# Altium schematic symbol library EXTRA.SchLib: 18 symbols
Pins are listed as number, name and electrical type; pins without a type are passive.

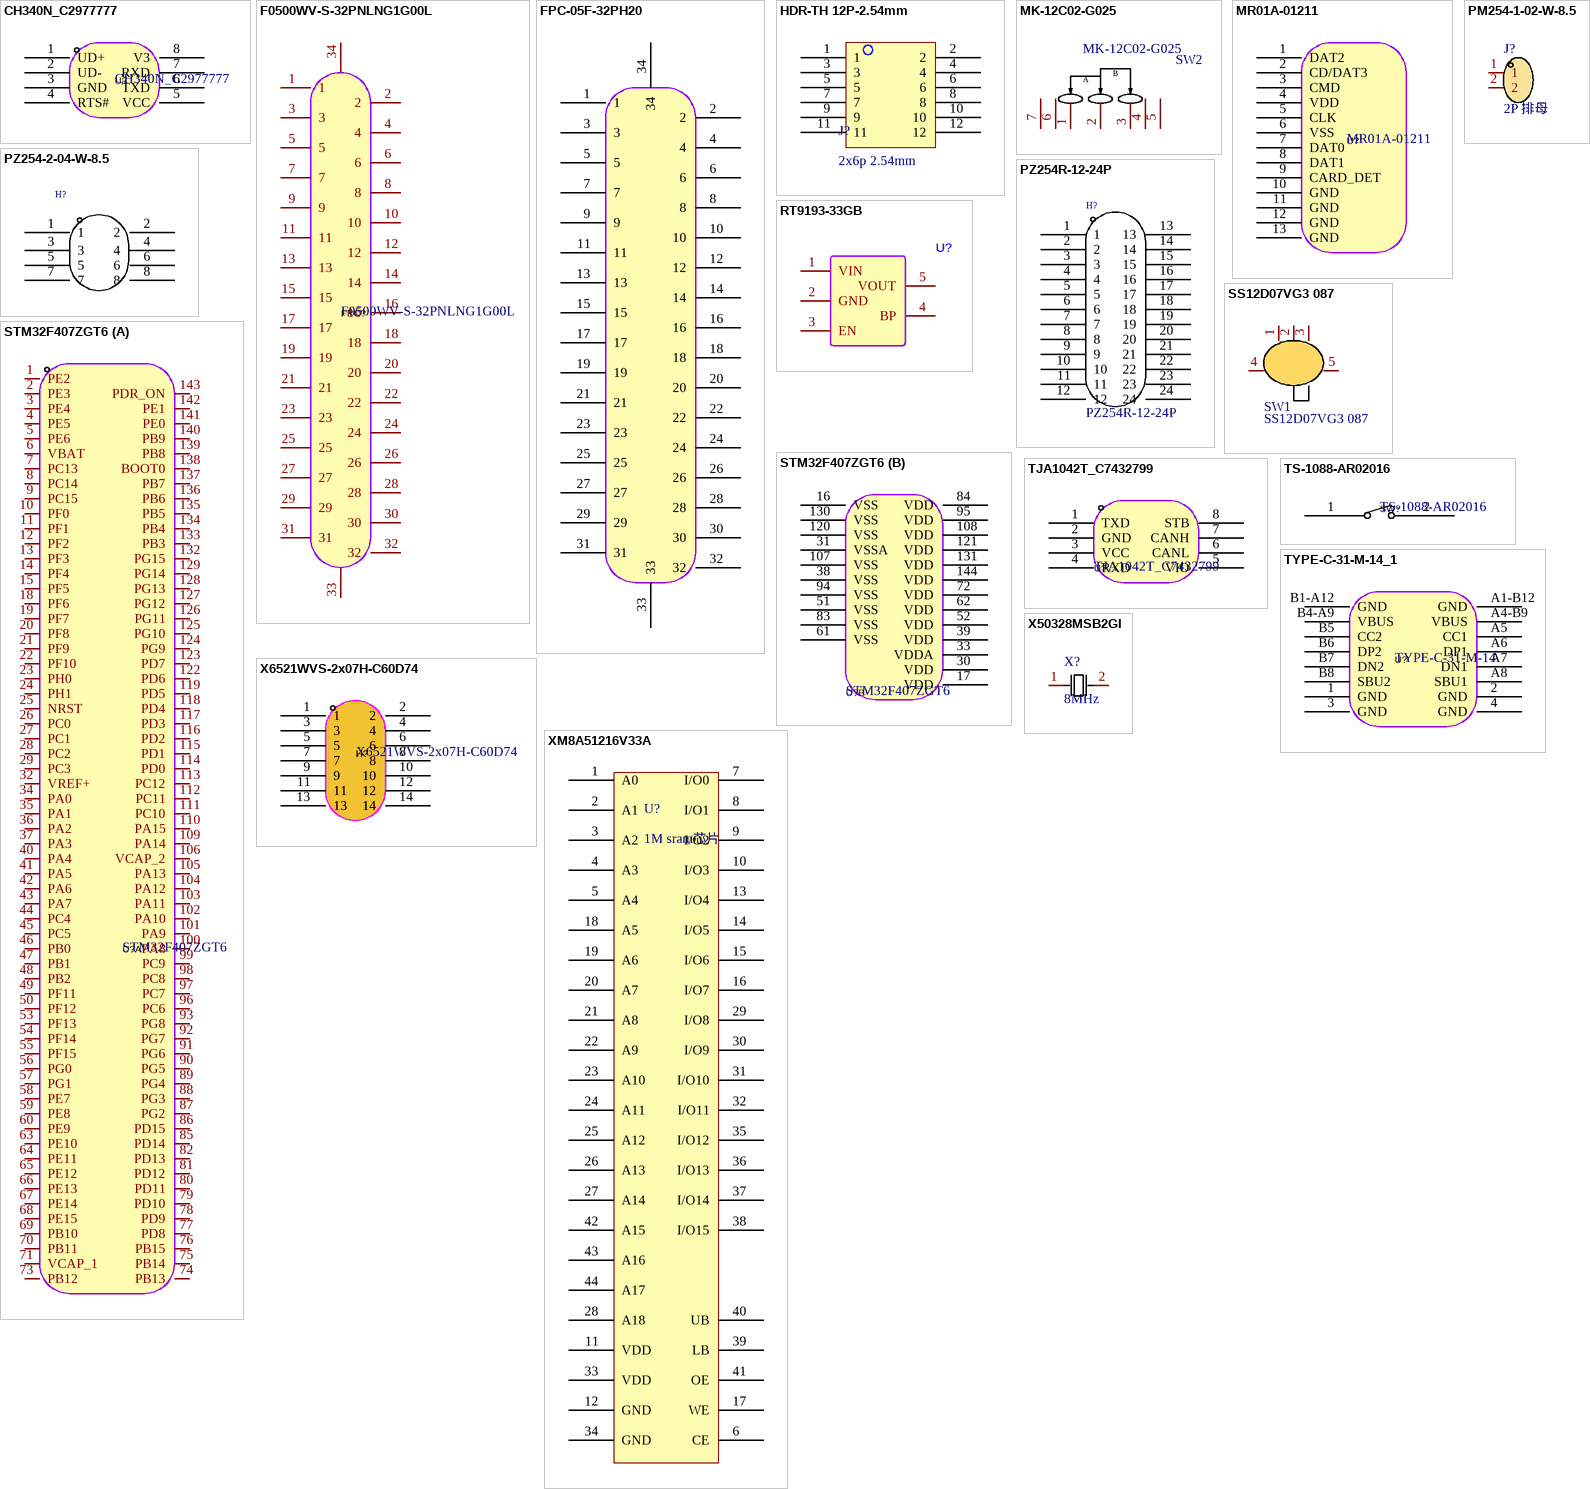
[diagram p0: symbols CH340N_C2977777 to XM8A51216V33A]

## CH340N_C2977777
designator U?
TTL串口phy; Designer: U?; Symbol: CH340N_C2977777; Device: CH340N_C2977777
footprint CH340_N (USB转串口小封装芯片)
pins: 1 UD+, 2 UD-, 3 GND, 4 RTS#, 5 VCC, 6 TXD, 7 RXD, 8 V3

## F0500WV-S-32PNLNG1G00L
designator FPC?
FPC_32PIN; Manufacturer: HR(灿达); Add into BOM: yes; Pitch: 0.5mm; Number of Contacts: 32; Locking Feature: 抽屉式; FFC, FCB Thickness: 0.3mm; Name: F0500WV-S-32PNLNG1G00L; Symbol: F0500WV-S-32PNLNG1G00L; Device: F0500WV-S-32PNLNG1G00L; LCSC Part Name: 0.5mm P数:32 抽屉式 下接 镀金无卤素; Supplier Part: C247829; Manufacturer Part: F0500WV-S-32PNLNG1G00L; Supplier Footprint: SMD,P=0.5mm; JLCPCB Part Class: Extended Part; Datasheet: https://atta.szlcsc.com/upload/public/pdf/source/20190122/C247829_AD3F4E79C9174FB4B4603555866720A3.pdf; Supplier: LCSC; Convert to PCB: yes; Mounting Type: 卧贴; Contact Type: 下接; Height Above Board: 4.35mm
3D model FPC-SMD_P0.50-32P_F0500WV-S
footprint FPC-SMD_P0.50-32P_F0500WV-S (FPC_32PIN)
pins: 1, 2, 3, 4, 5, 6, 7, 8, 9, 10, 11, 12, 13, 14, 15, 16, 17, 18, 19, 20, 21, 22, 23, 24, 25, 26, 27, 28, 29, 30, 31, 32, 33, 34

## FPC-05F-32PH20
designator FPC?  (value not drawn)
FPC屏幕排线接口; Manufacturer: XUNPU(讯普); Add into BOM: yes; Name: FPC-05F-32PH20; Symbol: FPC-05F-32PH20; Device: FPC-05F-32PH20; LCSC Part Name: 32P 0.5mm; Supplier Part: C2856809; Manufacturer Part: FPC-05F-32PH20; Supplier Footprint: SMD; JLCPCB Part Class: Extended Part; Supplier: LCSC; Convert to PCB: yes
footprint FPC-SMD_32P-P0.50_XUNPU_FPC-05F-32PH20
3D model FPC-SMD_32P-P0.50_XUNPU_FPC-05F-32PH20
pins: 1, 2, 3, 4, 5, 6, 7, 8, 9, 10, 11, 12, 13, 14, 15, 16, 17, 18, 19, 20, 21, 22, 23, 24, 25, 26, 27, 28, 29, 30, 31, 32, 33, 34

## HDR-TH 12P-2.54mm
designator J?, comment 2x6p 2.54mm
弯针2x6p排针
footprint HDR-TH 12P-2.54mm (上下6p弯曲排针)
pins: 1, 2, 3, 4, 5, 6, 7, 8, 9, 10, 11, 12

## MK-12C02-G025
designator SW2
贴片拨动开关; Manufacturer: G-Switch(品赞); Add into BOM: yes; Circuit: 单刀双掷; Actuator Style: 矩形柱状; Pin Style: SMD接片; Switch Length: 6.6mm; Switch Width: 2.7mm; Switch Height: 5.2mm; Actuator Color: 黑色; Current Rating (DC): 1A; Voltage Rating (DC): 6V; Mechanical Life: 1万次; Symbol: MK-12C02-G025; Device: MK-12C02-G025; Supplier: LCSC; Supplier Part: C778186; Manufacturer Part: MK-12C02-G025; JLCPCB Part Class: 扩展库; LCSC Part Name: 七脚小拨动开关2.5柄; Supplier Footprint: SMD; Datasheet: https://atta.szlcsc.com/upload/public/pdf/source/20200902/C778186_2AF08473ED98414D93A175E8814EEFA6.pdf; Convert to PCB: yes; Mounting Style: 卧贴; Operating Temperature: -20℃~+70℃; Name: MK-12C02-G025
footprint MK-12C02-G025 (贴片拨动开关)
pins: 1, 2, 3, 4, 5, 6, 7
text: B; A

## MR01A-01211
designator U?
SD卡座; Manufacturer: ATOM(爱特姆); Add into BOM: yes; Card Type: MicroSD卡(TF卡); Connector Type: 卡座; Card Connection Mode: 自弹式; Maximum Body Height: 1.85mm; Name: MR01A-01211; Symbol: MR01A-01211; Device: MR01A-01211; LCSC Part Name: MR01A-01211; Supplier Part: C479742; Manufacturer Part: MR01A-01211; Supplier Footprint: SMD; JLCPCB Part Class: Extended Part; Datasheet: https://atta.szlcsc.com/upload/public/pdf/source/20200107/C479742_0284EDD146B0D8F7A9D47B481AEA01A2.pdf; Supplier: LCSC; Convert to PCB: yes; Operating Temperature Range: -25℃~+85℃
3D model TF-SMD_MR01A-01211
footprint TF-SMD_MR01A-01211 (SD卡卡座)
pins: 1 DAT2, 2 CD/DAT3, 3 CMD, 4 VDD, 5 CLK, 6 VSS, 7 DAT0, 8 DAT1, 9 CARD_DET, 10 GND, 11 GND, 12 GND, 13 GND

## PM254-1-02-W-8.5
designator J?, comment 2P 排母
2p弯针; Manufacturer: HCTL(华灿天禄); Symbol: PM254-1-02-W-8.5; Add into BOM: yes; Holes Structure: 1x2P; Pitch: 2.54mm; Circular Hole / Square Hole: 方孔; Current Rating (Max): 3A; Holes Direction: 侧面; Device: PM254-1-02-W-8.5; Supplier: LCSC; Supplier Part: C2897384; Manufacturer Part: PM254-1-02-W-8.5; JLCPCB Part Class: 扩展库; LCSC Part Name: 间距:2.54mm 1x2P 弯插; Supplier Footprint: 弯插,P=2.54mm; Datasheet: https://atta.szlcsc.com/upload/public/pdf/source/20230609/7BA40A3D721268A082DCDEAD4C99131B.pdf; Convert to PCB: yes; Number of Holes: 2P; Mounting Type: 弯插; Number of Rows: 单排; Row Spacing: -; Voltage Rating (Max): -; Insulation Height: 8.5mm; Operating Temperature Range: -40℃~+105℃
footprint PM254-1-02-W-8.5 (2p 弯针)
pins: 1, 2

## PZ254-2-04-W-8.5
designator H?
2.54mm 2x4p 弯针; Manufacturer: HCTL(华灿天禄); Symbol: PZ254-2-04-W-8.5; Add into BOM: yes; Circluar Pins/Square Pins: 方针; Current Rating (Max): 3A; Device: PZ254-2-04-W-8.5; Supplier: LCSC; Supplier Part: C2894984; Manufacturer Part: PZ254-2-04-W-8.5; JLCPCB Part Class: 扩展库; LCSC Part Name: 2.54mm 2x4P 弯插 方针; Supplier Footprint: 插件,P=2.54mm; Convert to PCB: yes; Pitch: 2.54mm; Number of Pins: 8; Number of Rows: 2; Pin Structure: 2x4P; Row Spacing: 2.54mm; Mounting Type: 弯插; Voltage Rating (Max): -; Length of Mating Pin: 6mm; Insulation Height: 2.5mm; Length of End Connection Pin: -; Contact Material: -; Operating Temperature Range: -40℃~+105℃; Color: 黑色
footprint PZ254-2-04-W-8.5 (2.54mm 2x4p 弯针)
pins: 1, 2, 3, 4, 5, 6, 7, 8

## PZ254R-12-24P
designator H?  Name: PZ254R-12-24P
2X12P 弯针; Manufacturer: XFCN(兴飞); Add into BOM: yes; Pitch: 2.54mm; Circluar Pins/Square Pins: 方针; Symbol: PZ254R-12-24P; Device: PZ254R-12-24P; Supplier: LCSC; Supplier Part: C492440; Manufacturer Part: PZ254R-12-24P; JLCPCB Part Class: 扩展库; LCSC Part Name: 间距:2.54mm 2x12P 弯插 方针; Supplier Footprint: 弯插,P=2.54mm; Datasheet: https://atta.szlcsc.com/upload/public/pdf/source/20200309/C492440_7713BEBBF73A70D81BA4F83CA4F38610.pdf; Convert to PCB: yes; Pin Structure: 2x12P; Row Spacing: 2.54mm; Mounting Type: 弯插; Number of Rows: 双排; Number of Pins: 24P; Current Rating (Max): -; Voltage Rating (Max): -; Length of Mating Pin: 6mm; Insulation Height: 2.5mm; Contact Material: 黄铜; Contact Plating: -; Operating Temperature Range: -40℃~+105℃; Color: 黑色
footprint PZ254R-12-24P (2X12P 弯针)
pins: 1, 2, 3, 4, 5, 6, 7, 8, 9, 10, 11, 12, 13, 14, 15, 16, 17, 18, 19, 20, 21, 22, 23, 24

## RT9193-33GB
designator U?
5v转3.3vLDO电源芯片
footprint RT9193-33GB
pins: 1 VIN, 2 GND, 3 EN, 4 BP, 5 VOUT

## SS12D07VG3 087
designator SW1
直插贴片开关; Manufacturer: SHOU HAN(首韩); Add into BOM: yes; Circuit: 单刀双掷; Pin Style: PC引脚; Switch Length: 8.7mm; Switch Width: 4.4mm; Switch Height: 4.7mm; Current Rating (DC): 500mA; Voltage Rating (DC): 50V; Mechanical Life: 5千次; Symbol: SS12D07VG3 087; Device: SS12D07VG3 087; Supplier: LCSC; Supplier Part: C2939725; Manufacturer Part: SS12D07VG3 087; JLCPCB Part Class: 扩展库; LCSC Part Name: SS12D07VG3 087; Supplier Footprint: 插件; Datasheet: https://atta.szlcsc.com/upload/public/pdf/source/20220106/77EDD450BA7545A1F1665F035F54D3A4.pdf; Convert to PCB: yes; Actuator Style: -; Mounting Style: 立插; Actuator Color: -; Current Rating (AC): -; Voltage Rating (AC): -; Operating Temperature: -10℃~+50℃
footprint SS12D07VG3 (直插拨片开关)
pins: 1, 2, 3, 4, 5

## STM32F407ZGT6
designator U?
STM32F407ZGT6MCU; Manufacturer: ST(意法半导体); Add into BOM: yes; CPU Core: ARM Cortex-M4; Maximum Frequency: 168MHz; Supply Voltage Range: 1.8V~3.6V; Internal Oscillator: 有; Program FLASH Size: 1MB; RAM Size: 192KB; GPIO Ports Number: 114; ADC (Units/Channels/bits): 1@x24ch/12bit; DAC (Units/Channels/bits): 1@x2ch/12bit; Peripherals / Functions / Protocol Stacks: 欠压检测/复位；DMA；LCD驱动；看门狗；POR；PWM; Name: STM32F407ZGT6; Symbol: STM32F407ZGT6; Device: STM32F407ZGT6; LCSC Part Name: ARM Cortex-M4 168MHz 闪存：1MB RAM：192KB; Supplier Part: C19156; Manufacturer Part: STM32F407ZGT6; Supplier Footprint: LQFP-144(20x20); JLCPCB Part Class: Extended Part; Datasheet: https://atta.szlcsc.com/upload/public/pdf/source/20140724/1457707162528.pdf; Supplier: LCSC; Convert to PCB: yes; EEPROM/Data FLASH Size: -; Operating Temperature Range: -40℃~+85℃
footprint LQFP-144_L20.0-W20.0-P0.50-LS22.0-BL
3D model LQFP-144_L20.0-W20.0-P0.50-LS22.0-BL
part A pins: 1 PE2, 2 PE3, 3 PE4, 4 PE5, 5 PE6, 6 VBAT, 7 PC13, 8 PC14, 9 PC15, 10 PF0, 11 PF1, 12 PF2, 13 PF3, 14 PF4, 15 PF5, 18 PF6, 19 PF7, 20 PF8, 21 PF9, 22 PF10, 23 PH0, 24 PH1, 25 NRST, 26 PC0, 27 PC1, 28 PC2, 29 PC3, 32 VREF+, 34 PA0, 35 PA1, 36 PA2, 37 PA3, 40 PA4, 41 PA5, 42 PA6, 43 PA7, 44 PC4, 45 PC5, 46 PB0, 47 PB1, 48 PB2, 49 PF11, 50 PF12, 53 PF13, 54 PF14, 55 PF15, 56 PG0, 57 PG1, 58 PE7, 59 PE8, 60 PE9, 63 PE10, 64 PE11, 65 PE12, 66 PE13, 67 PE14, 68 PE15, 69 PB10, 70 PB11, 71 VCAP_1, 73 PB12, 74 PB13, 75 PB14, 76 PB15, 77 PD8, 78 PD9, 79 PD10, 80 PD11, 81 PD12, 82 PD13, 85 PD14, 86 PD15, 87 PG2, 88 PG3, 89 PG4, 90 PG5, 91 PG6, 92 PG7, 93 PG8, 96 PC6, 97 PC7, 98 PC8, 99 PC9, 100 PA8, 101 PA9, 102 PA10, 103 PA11, 104 PA12, 105 PA13, 106 VCAP_2, 109 PA14, 110 PA15, 111 PC10, 112 PC11, 113 PC12, 114 PD0, 115 PD1, 116 PD2, 117 PD3, 118 PD4, 119 PD5, 122 PD6, 123 PD7, 124 PG9, 125 PG10, 126 PG11, 127 PG12, 128 PG13, 129 PG14, 132 PG15, 133 PB3, 134 PB4, 135 PB5, 136 PB6, 137 PB7, 138 BOOT0, 139 PB8, 140 PB9, 141 PE0, 142 PE1, 143 PDR_ON
part B pins: 16 VSS, 17 VDD, 30 VDD, 31 VSSA, 33 VDDA, 38 VSS, 39 VDD, 51 VSS, 52 VDD, 61 VSS, 62 VDD, 72 VDD, 83 VSS, 84 VDD, 94 VSS, 95 VDD, 107 VSS, 108 VDD, 120 VSS, 121 VDD, 130 VSS, 131 VDD, 144 VDD

## TJA1042T_C7432799
designator U?
CAN TJA1042phy; Manufacturer: Tokmas(托克马斯); Add into BOM: yes; Name: TJA1042T; Symbol: TJA1042T_C7432799; Device: TJA1042T_C7432799; LCSC Part Name: TJA1042T; Supplier Part: C7432799; Manufacturer Part: TJA1042T; Supplier Footprint: SOP-8; JLCPCB Part Class: Extended Part; Datasheet: https://atta.szlcsc.com/upload/public/pdf/source/20230625/BF864921860ECC2FF6AF6AEDC281998F.pdf; Supplier: LCSC; Convert to PCB: yes; link: https://atta.szlcsc.com/upload/public/pdf/source/20230621/7AB02851301655B02FC6140105FC6246.pdf
3D model SOP-8_L4.9-W3.9-P1.27-LS6.0-BL-1
footprint TJA1042
pins: 1 TXD, 2 GND, 3 VCC, 4 RXD, 5 VIO, 6 CANL, 7 CANH, 8 STB

## TS-1088-AR02016
designator SW?
轻触开关; Manufacturer: XUNPU(讯普); Add into BOM: yes; Circuit: 单刀单掷; Actuator Style: 圆形按钮; Switch Length: 4mm; Switch Width: 3mm; Switch Height: 2mm; Strike Gundam: 不带; Contact Current: 50mA; Voltage Rating (DC): 12V; Insulation Resistance: 100MΩ; Actuator/Cap Color: 黑色; Operating Force: 160gf; Pin Style: SMD接片; Mechanical Life: 10万次; Symbol: TS-1088-AR02016; Device: TS-1088-AR02016; Supplier: LCSC; Supplier Part: C720477; Manufacturer Part: TS-1088-AR02016; JLCPCB Part Class: Extended Part; LCSC Part Name: 4*3*2mm 立贴 轻触开关; Supplier Footprint: SMD; Datasheet: https://atta.szlcsc.com/upload/public/pdf/source/20200810/C720475_60D09DD6C54279ADDB2DC25100F1CC11.pdf; Convert to PCB: yes; Mounting Style: 立贴; Operating Temperature: -30℃~+80℃
footprint SW-SMD_L3.9-W3.0-P4.45
pins: 1, 2

## TYPE-C-31-M-14_1
designator U?, comment TYPE-C-31-M-14
type-c接口; Manufacturer: 韩国韩荣; Add into BOM: yes; Connector Type: Type-C; Gender: 母座; Number of Contacts: 12; Number of Ports: 1; Name: TYPE-C-31-M-14; Symbol: TYPE-C-31-M-14; Device: TYPE-C-31-M-14; LCSC Part Name: TYPE-C-31-M-14; Supplier Part: C223907; Manufacturer Part: TYPE-C-31-M-14; Supplier Footprint: SMD; JLCPCB Part Class: Extended Part; Datasheet: https://atta.szlcsc.com/upload/public/pdf/source/20210810/33D192CE742AF71F47CC03F903000C62.pdf; Supplier: LCSC; Convert to PCB: yes; Standard: -
3D model USB-C-SMD_12P-P0.50-H-F_TYPE-C-31-M-14 (PCB3D Model)
footprint TYPE-C-31-M-14 (typec插头)
pins: 1 GND, 2 GND, 3 GND, 4 GND, A1-B12 GND, A4-B9 VBUS, A5 CC1, A6 DP1, A7 DN1, A8 SBU1, B1-A12 GND, B4-A9 VBUS, B5 CC2, B6 DP2, B7 DN2, B8 SBU2

## X6521WVS-2x07H-C60D74
designator H?
贴片2x7p排针; Manufacturer: XKB Connectivity(中国星坤); Add into BOM: yes; Pitch: 2.54mm; Pin Structure: 2x7P; Circluar Pins/Square Pins: 方针; Current Rating (Max): 3A; Voltage Rating (Max): 250V; Welding Temperature (Max): 260℃; Name: X6521WVS-2x07H-C60D74; Symbol: X6521WVS-2X07H-C60D74; Device: X6521WVS-2x07H-C60D74; LCSC Part Name: 2.54mm 2x7P 立贴 方针; Supplier Part: C2884016; Manufacturer Part: X6521WVS-2x07H-C60D74; Supplier Footprint: SMD,P=2.54mm; JLCPCB Part Class: Extended Part; Datasheet: https://atta.szlcsc.com/upload/public/pdf/source/20211009/E3239EE5247E6BAFECB8B74A4FCF9AB8.pdf; Supplier: LCSC; Convert to PCB: yes; Number of Rows: 双排; Number of Pins: 14P; Row Spacing: -; Mounting Type: 立贴; Length of Mating Pin: 6mm; Insulation Height: 2.5mm; Length of End Connection Pin: -; Contact Material: 黄铜; Contact Plating: 金; Operating Temperature Range: -40℃~+105℃; Color: 黑色; link: https://atta.szlcsc.com/upload/public/pdf/source/20211009/E3239EE5247E6BAFECB8B74A4FCF9AB8.pdf
3D model HDR-SMD_14P-P2.54-V-M-R2-C7-LS7.4
footprint HDR-SMD_14P-P2.54-V-M-R2-C7-LS7.4
pins: 1, 2, 3, 4, 5, 6, 7, 8, 9, 10, 11, 12, 13, 14

## X50328MSB2GI
designator X?, comment 8MHZ
贴片晶振; Manufacturer: YXC(扬兴晶振); Symbol: X50328MSB2GI; Add into BOM: yes; Crystal Type: 贴片无源晶振; Load Capacitance: 20pF; Frequency Tolerance: ±10ppm; Frequency Stability: ±50ppm; Device: X50328MSB2GI; Supplier: LCSC; Manufacturer Part: X50328MSB2GI; Value: 8MHz; Supplier Part: C115962; LCSC Part Name: 8MHz ±10ppm 20pF YSX530GA YSX530GA; Supplier Footprint: SMD5032-2P; Datasheet: https://atta.szlcsc.com/upload/public/pdf/source/20230220/0EBFFB9D6D8CE6A211407822BBB6C516.pdf; Convert to PCB: yes; Operating Temperature: -40℃~+85℃; Name: 8MHz
footprint CRYSTAL-SMD_L5.0-W3.2
pins: 1 OSC1, 2 OSC2

## XM8A51216V33A
designator U?, comment 1M sram芯片
外接SRAM芯片
footprint XM8A51216V33A (1M sram芯片)
footprint IS61LV51216 (TSOP-44_L18.4-W10.2-P0.80-LS11.8-BL)
pins: 1 A0, 2 A1, 3 A2, 4 A3, 5 A4, 6 CE, 7 I/O0, 8 I/O1, 9 I/O2, 10 I/O3, 11 VDD, 12 GND, 13 I/O4, 14 I/O5, 15 I/O6, 16 I/O7, 17 WE, 18 A5, 19 A6, 20 A7, 21 A8, 22 A9, 23 A10, 24 A11, 25 A12, 26 A13, 27 A14, 28 A18, 29 I/O8, 30 I/O9, 31 I/O10, 32 I/O11, 33 VDD, 34 GND, 35 I/O12, 36 I/O13, 37 I/O14, 38 I/O15, 39 LB, 40 UB, 41 OE, 42 A15, 43 A16, 44 A17